# Altium footprint library Elektrolitski_kondenzator.PcbLib: 1 footprints
Each footprint in its own frame and in the unit in brackets; x right, y up, seen from the top. Pads: shape width x height; smd on the part's side, far side on the other; paste and mask are expansions set on the pad; w line width, h text height; cw(c..) or ccw(c..) is an arc to the next point about the centre after c.
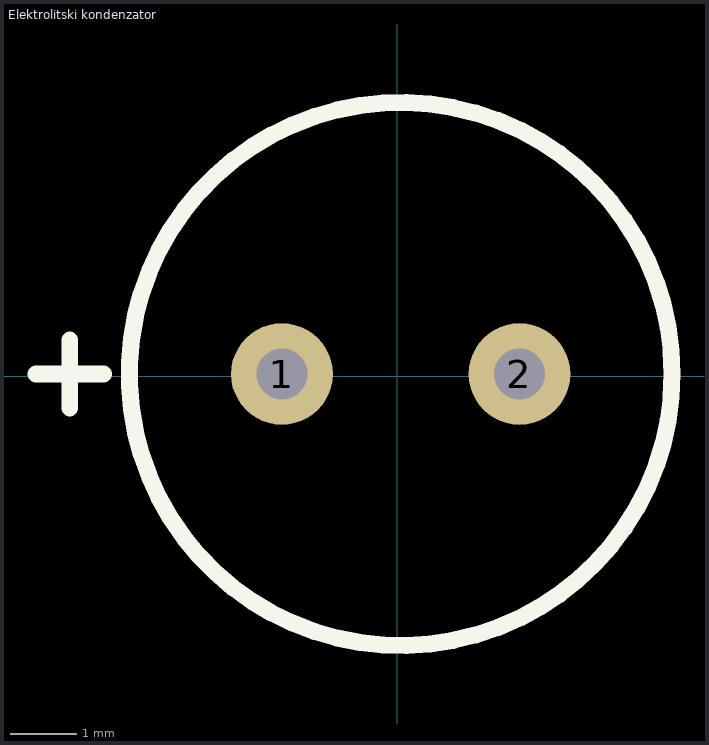
[diagram p0: the footprint, top view; thin cyan lines are the x and y axes]

## Elektrolitski kondenzator [mil]
pads (2):
  round 60 hole 30: 1(-67.87,1.42) 2(72.13,1.42)
Top Overlay:
  circle w10: c2.13,1.42 r160
  lines w10: -212.87,1.42 -172.87,1.42 ; -192.87,-18.58 -192.87,21.42